# Altium schematic symbol library Schlib1.SchLib: 20 symbols
Pins are listed as number, name and electrical type; pins without a type are passive.

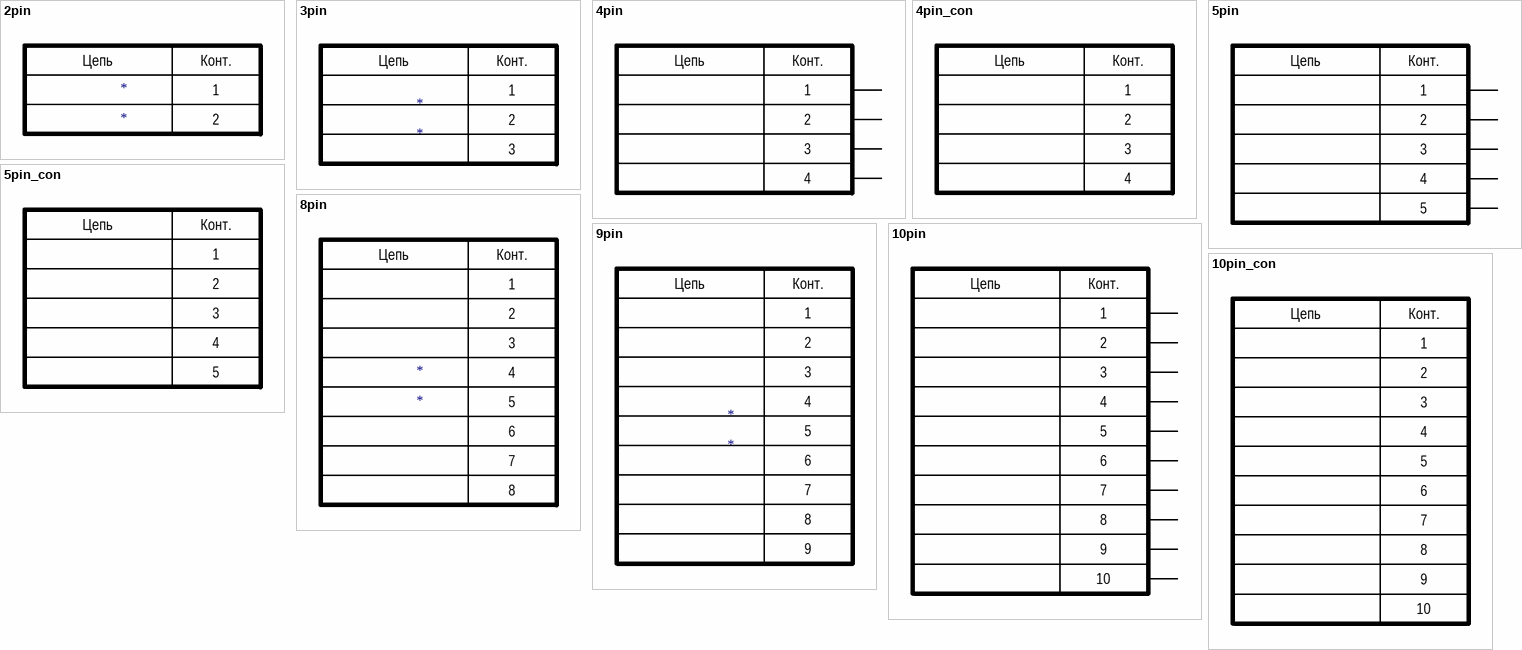
[diagram p0: symbols 2pin to 10pin_con]

## 2pin
designator *
text: Цепь; Конт.; 1; 2

## 3pin
designator *
text: Цепь; Конт.; 1; 2; 3

## 4pin
designator X?  (value not drawn)
pins: 1, 2, 3, 4
text: Цепь; Конт.

## 4pin_con
designator X?  (value not drawn)
text: Цепь; Конт.; 1; 2; 3; 4

## 5pin
designator X?  (value not drawn)
pins: 1, 2, 3, 4, 4
text: Цепь; Конт.; 5

## 5pin_con
designator X?  (value not drawn)
text: Цепь; Конт.; 1; 2; 3; 4; 5

## 8pin
designator *
text: Цепь; Конт.; 1; 2; 3; 4; 5; 6; 7; 8

## 9pin
designator *
text: Цепь; Конт.; 1; 2; 3; 4; 5; 6; 7; 8; 9

## 10pin
designator X?  (value not drawn)
pins: 1, 1, 2, 2, 3, 3, 4, 4, 4, 4
text: Цепь; Конт.; 5; 6; 7; 8; 9; 10

## 10pin_con
designator X?  (value not drawn)
text: Цепь; Конт.; 1; 2; 3; 4; 5; 6; 7; 8; 9; 10

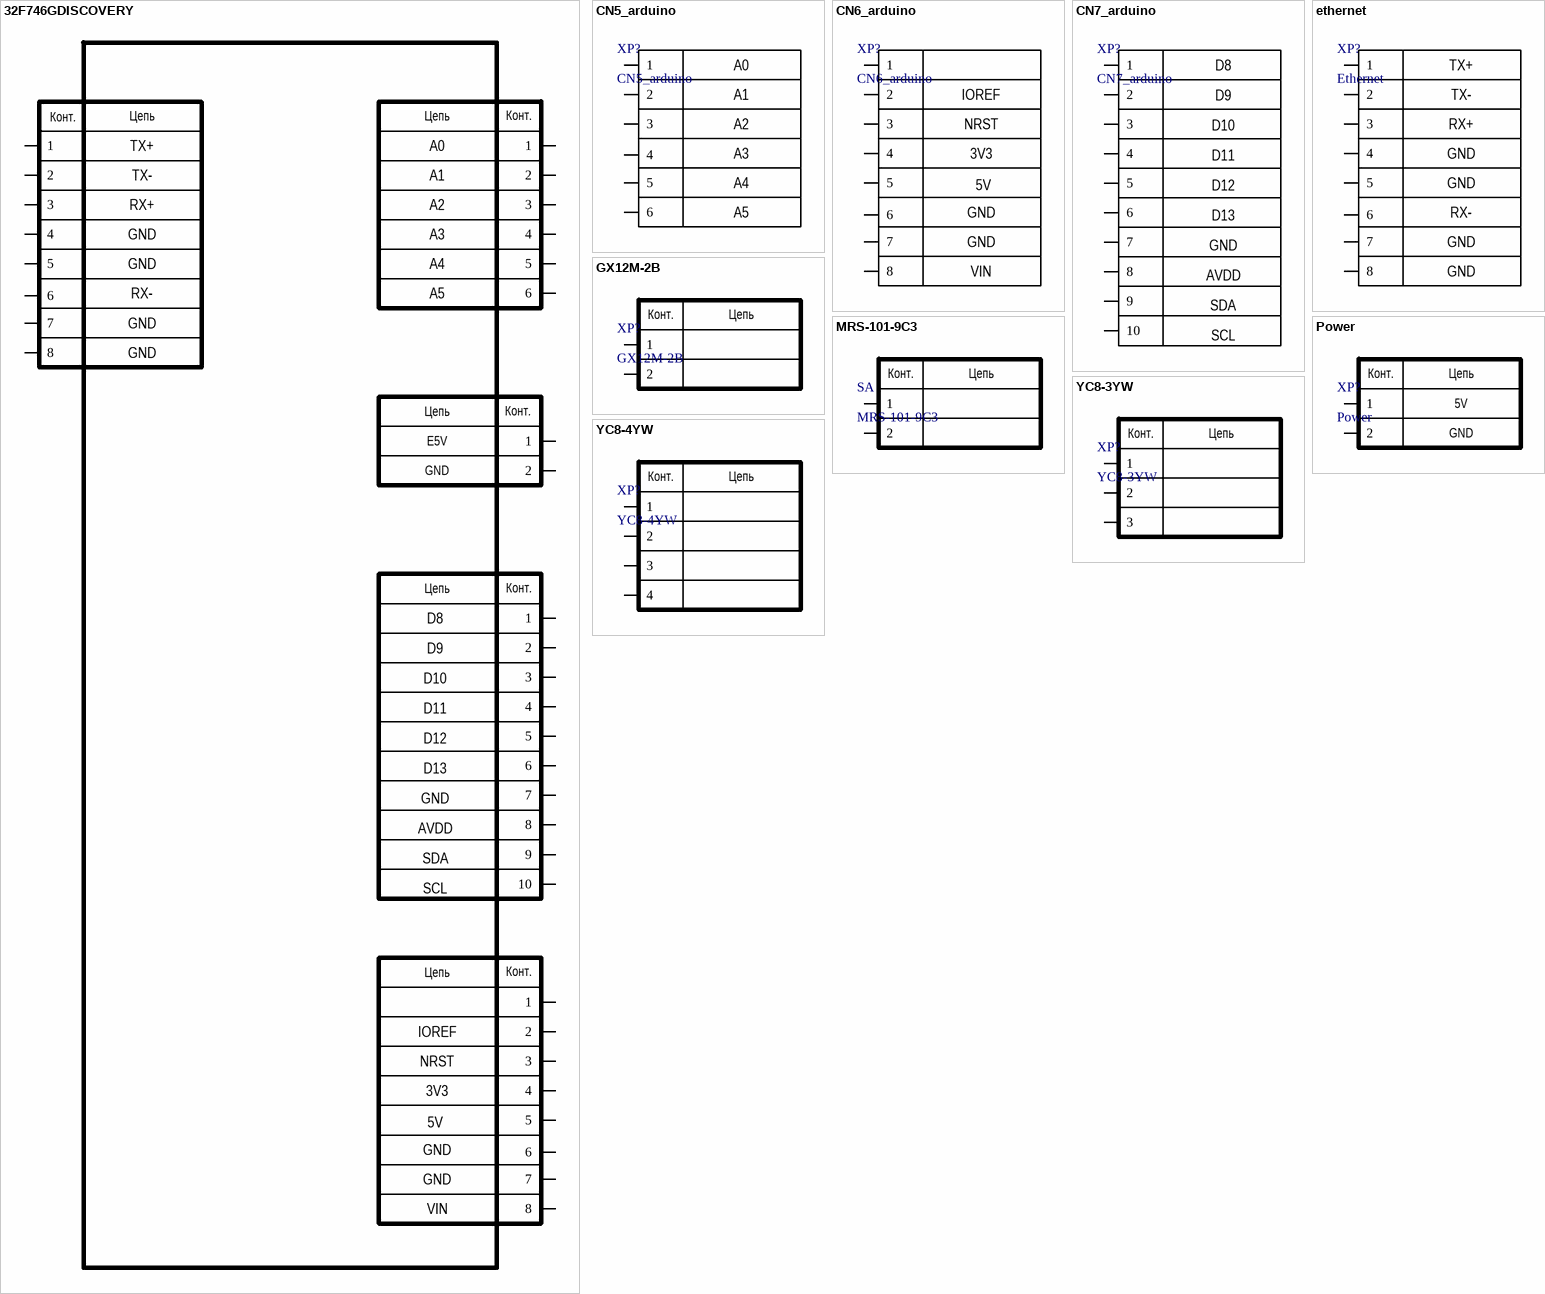
[diagram p1: symbols 32F746GDISCOVERY to YC8-4YW]

## 32F746GDISCOVERY
designator *  (value not drawn)
pins: 1, 1, 1, 1, 1, 2, 2, 2, 2, 2, 3, 3, 3, 3, 4, 4, 4, 4, 5, 5, 5, 5, 6, 6, 6, 6, 7, 7, 7, 8, 8, 8, 9, 10
text: Конт.; Цепь; TX+; A0; TX-; A1; RX+; A2; GND; A3; A4; RX-; A5; E5V; D8; D9; D10; D11; D12; D13; AVDD; SDA; SCL; IOREF; NRST; 3V3; 5V; VIN

## CN5_arduino
designator XP?
pins: 1, 2, 3, 4, 5, 6
text: A0; A1; A2; A3; A4; A5

## CN6_arduino
designator XP?
pins: 1, 2, 3, 4, 5, 6, 7, 8
text: IOREF; NRST; 3V3; 5V; GND; VIN

## CN7_arduino
designator XP?
pins: 1, 2, 3, 4, 5, 6, 7, 8, 9, 10
text: D8; D9; D10; D11; D12; D13; GND; AVDD; SDA; SCL

## ethernet
designator XP?, comment Ethernet
pins: 1, 2, 3, 4, 5, 6, 7, 8
text: TX+; TX-; RX+; GND; RX-

## GX12M-2B
designator XP?
pins: 1, 2
text: Конт.; Цепь

## MRS-101-9C3
designator SA
pins: 1, 2
text: Конт.; Цепь

## Power
designator XP?
pins: 1, 2
text: Конт.; Цепь; 5V; GND

## YC8-3YW
designator XP?
pins: 1, 2, 3
text: Конт.; Цепь

## YC8-4YW
designator XP?
pins: 1, 2, 3, 4
text: Конт.; Цепь